# EAGLE library part TC_2030_IDC_NL_TOP (library leaf)
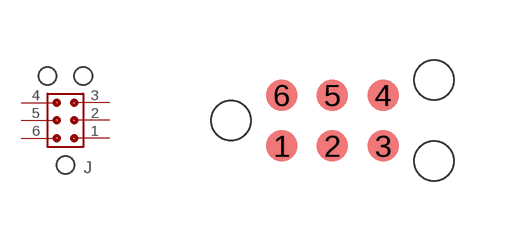
[diagram p2: symbol with the pads of TC_2030_IDC_NL_TOP; footprint TC_2030_IDC_NL_TOP]

Designator prefix J

## TC_2030_IDC_NL_TOP  [TC_2030_IDC_NL_TOP]
1  1
2  2
3  3
4  4
5  5
6  6

## Footprint TC_2030_IDC_NL_TOP (pad centres in mm)
smd 0.787 x 0.787: 1 1.27,-0.635; 2 2.54,-0.635; 3 3.81,-0.635; 4 3.81,0.635; 5 2.54,0.635; 6 1.27,0.635
hole 0.991 at 0,0
hole 0.991 at 5.08,1.016
hole 0.991 at 5.08,-1.016